# Altium schematic symbol library SCH - MISC - ZC_Serial.SCHLIB: 1 symbol
Pins are listed as number, name and electrical type; pins without a type are passive.

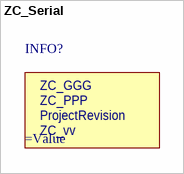
[diagram p0: symbol ZC_Serial]

## ZC_Serial
designator INFO?  (no BOM)
ZC Serial on PCB
text: ZC_GGG; ZC_PPP; ProjectRevision; ZC_vv